# Altium footprint library RectangularConnectors.PcbLib: 154 footprints (part 8 of 10)
Each footprint in its own frame and in the unit in brackets; x right, y up, seen from the top. Pads: shape width x height; smd on the part's side, far side on the other; paste and mask are expansions set on the pad; w line width, h text height; cw(c..) or ccw(c..) is an arc to the next point about the centre after c.
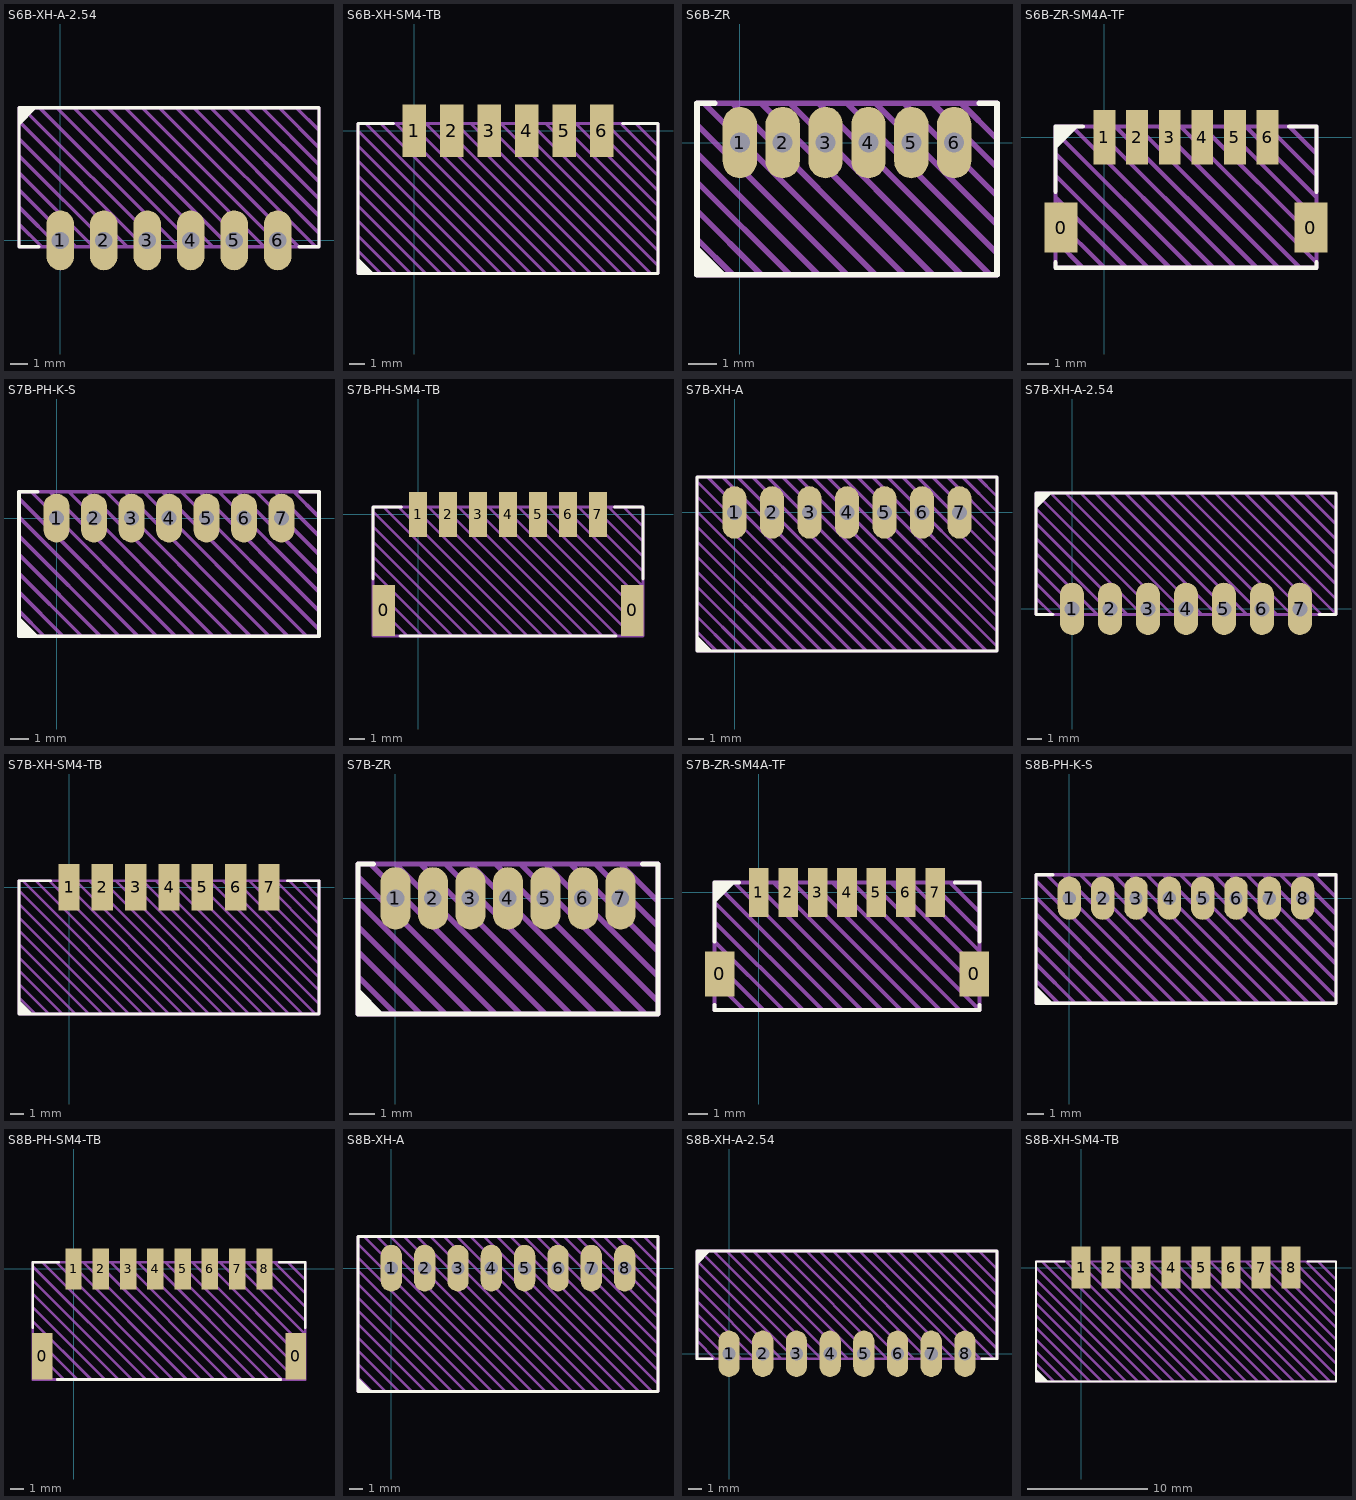
[diagram p7: the footprints below, top view; thin cyan lines are the x and y axes]

## S6B-XH-A-2.54 [mm] "XH2.54 PTH Right Angle"
pads (6):
  oval 1.6x3.5 hole 1: 1(0,0) 2(2.54,0) 3(5.08,0) 4(7.62,0) 5(10.16,0) 6(12.7,0)
Top Overlay:
  region: -2.413,6.707 -1.373,7.747 -2.413,7.747
  lines w0.2: -1.27,-0.381 -2.413,-0.381 -2.413,7.747 15.113,7.747 15.113,-0.381 13.97,-0.381
Top Draw:
  lines w0.2: -2.413,0.946 -1.086,-0.381 ; -2.413,1.946 -0.086,-0.381 ; -2.413,2.946 0.914,-0.381 ; -2.413,3.946 1.914,-0.381 ; -2.413,4.946 2.914,-0.381 ; -2.413,5.946 3.914,-0.381 ; -2.413,6.946 4.914,-0.381 ; -2.214,7.747 5.914,-0.381 ; -1.214,7.747 6.914,-0.381 ; -0.214,7.747 7.914,-0.381 ; 0.786,7.747 8.914,-0.381 ; 1.786,7.747 9.914,-0.381 ; 2.786,7.747 10.914,-0.381 ; 3.786,7.747 11.914,-0.381 ; 4.786,7.747 12.914,-0.381 ; 5.786,7.747 13.914,-0.381 ; 6.786,7.747 14.914,-0.381 ; 7.786,7.747 15.113,0.42 ; 8.786,7.747 15.113,1.42 ; 9.786,7.747 15.113,2.42 ; 10.786,7.747 15.113,3.42 ; 11.786,7.747 15.113,4.42 ; 12.786,7.747 15.113,5.42 ; 13.786,7.747 15.113,6.42 ; -2.413,-0.381 -2.413,7.747 15.113,7.747 15.113,-0.381 -2.413,-0.381
Top Info:
  text "'.Comment'" at 2.101,-3.25 h1
3D body "JST - XH - Thru (R) - 6Pin - 2.54mm.stp": height 5.84, standoff -3.38, extent -2.337,-0.325 15.037,7.712

## S6B-XH-SM4-TB [mm] "XH2.5 SMT Right Angle"
pads (6):
  rect 1.6x3.5 smd: 1(0,0) 2(2.5,0) 3(5,0) 4(7.5,0) 5(10,0) 6(12.5,0)
Top Overlay:
  region: -3.75,-8.46 -2.71,-9.5 -3.75,-9.5
  lines w0.2: -1.375,0.5 -3.75,0.5 -3.75,-9.5 16.25,-9.5 16.25,0.5 13.875,0.5
Top Draw:
  lines w0.2: -3.75,-8 -2.25,-9.5 ; -3.75,-7 -1.25,-9.5 ; -3.75,-6 -0.25,-9.5 ; -3.75,-5 0.75,-9.5 ; -3.75,-4 1.75,-9.5 ; -3.75,-3 2.75,-9.5 ; -3.75,-2 3.75,-9.5 ; -3.75,-1 4.75,-9.5 ; -3.75,0 5.75,-9.5 ; -3.25,0.5 6.75,-9.5 ; -2.25,0.5 7.75,-9.5 ; -1.25,0.5 8.75,-9.5 ; -0.25,0.5 9.75,-9.5 ; 0.75,0.5 10.75,-9.5 ; 1.75,0.5 11.75,-9.5 ; 2.75,0.5 12.75,-9.5 ; 3.75,0.5 13.75,-9.5 ; 4.75,0.5 14.75,-9.5 ; 5.75,0.5 15.75,-9.5 ; 6.75,0.5 16.25,-9 ; 7.75,0.5 16.25,-8 ; 8.75,0.5 16.25,-7 ; 9.75,0.5 16.25,-6 ; 10.75,0.5 16.25,-5 ; 11.75,0.5 16.25,-4 ; 12.75,0.5 16.25,-3 ; 13.75,0.5 16.25,-2 ; 14.75,0.5 16.25,-1 ; -3.75,-9.5 16.25,-9.5 16.25,0.5 -3.75,0.5 -3.75,-9.5
Top Info:
  text "'.Comment'" at 2.001,-10.958 h1
3D body "S6B-XH-SM4-TB.step": height 6, standoff 0, extent -3.75,-9.5 16.25,0.5

## S6B-ZR [mm] "ZH1.5 PTH Right Angle"
pads (6):
  oval 1.2x2.5 hole 0.7: 1(0,0) 2(1.5,0) 3(3,0) 4(4.5,0) 5(6,0) 6(7.5,0)
Top Overlay:
  region: -0.46,-4.625 -1.5,-3.585 -1.5,-4.625
  lines w0.2: -0.875,1.375 -1.5,1.375 -1.5,-4.625 9,-4.625 9,1.375 8.375,1.375
Top Draw:
  lines w0.2: -1.5,-3.375 -0.25,-4.625 ; -1.5,-2.375 0.75,-4.625 ; -1.5,-1.375 1.75,-4.625 ; -1.5,-0.375 2.75,-4.625 ; -1.5,0.625 3.75,-4.625 ; -1.25,1.375 4.75,-4.625 ; -0.25,1.375 5.75,-4.625 ; 0.75,1.375 6.75,-4.625 ; 1.75,1.375 7.75,-4.625 ; 2.75,1.375 8.75,-4.625 ; 3.75,1.375 9,-3.875 ; 4.75,1.375 9,-2.875 ; 5.75,1.375 9,-1.875 ; 6.75,1.375 9,-0.875 ; 7.75,1.375 9,0.125 ; -1.5,-4.625 9,-4.625 9,1.375 -1.5,1.375 -1.5,-4.625
Top Info:
  text "'.Comment'" at 0.564,-5.812 h0.75
3D body "S6B-ZR.step": height 3.72, standoff -2.68, extent -1.5,-4.6 9,1.4

## S6B-ZR-SM4A-TF [mm] "ZH1.5 SMT Right Angle"
pads (8):
  rect 1.5x2.3 smd: 0(-2,-4.15) 0(9.5,-4.15)
  rect 1x2.5 smd: 1(0,0) 2(1.5,0) 3(3,0) 4(4.5,0) 5(6,0) 6(7.5,0)
Top Overlay:
  region: -1.21,0.5 -2.25,-0.54 -2.25,0.5
  lines w0.2: -2.25,-5.75 -2.25,-6 9.75,-6 9.75,-5.75 ; -2.25,-2.5 -2.25,0.5 -1,0.5 ; 8.5,0.5 9.75,0.5 9.75,-2.5
Top Draw:
  lines w0.2: -2.25,-4.75 -1,-6 ; -2.25,-3.75 0,-6 ; -2.25,-2.75 1,-6 ; -2.25,-1.75 2,-6 ; -2.25,-0.75 3,-6 ; -2.25,0.25 4,-6 ; -1.5,0.5 5,-6 ; -0.5,0.5 6,-6 ; 0.5,0.5 7,-6 ; 1.5,0.5 8,-6 ; 2.5,0.5 9,-6 ; 3.5,0.5 9.75,-5.75 ; 4.5,0.5 9.75,-4.75 ; 5.5,0.5 9.75,-3.75 ; 6.5,0.5 9.75,-2.75 ; 7.5,0.5 9.75,-1.75 ; 8.5,0.5 9.75,-0.75 ; -2.25,-6 9.75,-6 9.75,0.5 -2.25,0.5 -2.25,-6
Top Info:
  text "'.Comment'" at 0.564,-7.187 h0.75
3D body "S6B-ZR-SM4A-TF.step": height 3.72, standoff 0.02, extent -2.25,-6 9.75,0.5

## S7B-PH-K-S [mm] "PH2.0 PTH Right Angle"
pads (7):
  oval 1.4x2.6 hole 0.8: 1(0,0) 2(2,0) 3(4,0) 4(6,0) 5(8,0) 6(10,0) 7(12,0)
Top Overlay:
  region: -0.96,-6.3 -2,-5.26 -2,-6.3
  lines w0.2: -1,1.4 -2,1.4 -2,-6.3 14,-6.3 14,1.4 13,1.4
Top Draw:
  lines w0.2: -2,-4.95 -0.65,-6.3 ; -2,-3.95 0.35,-6.3 ; -2,-2.95 1.35,-6.3 ; -2,-1.95 2.35,-6.3 ; -2,-0.95 3.35,-6.3 ; -2,0.05 4.35,-6.3 ; -2,1.05 5.35,-6.3 ; -1.35,1.4 6.35,-6.3 ; -0.35,1.4 7.35,-6.3 ; 0.65,1.4 8.35,-6.3 ; 1.65,1.4 9.35,-6.3 ; 2.65,1.4 10.35,-6.3 ; 3.65,1.4 11.35,-6.3 ; 4.65,1.4 12.35,-6.3 ; 5.65,1.4 13.35,-6.3 ; 6.65,1.4 14,-5.95 ; 7.65,1.4 14,-4.95 ; 8.65,1.4 14,-3.95 ; 9.65,1.4 14,-2.95 ; 10.65,1.4 14,-1.95 ; 11.65,1.4 14,-0.95 ; 12.65,1.4 14,0.05 ; -2,-6.3 -2,1.4 14,1.4 14,-6.3 -2,-6.3
Top Info:
  text "'.Comment'" at 1.751,-7.783 h1
3D body "S7B-PH-K-S.stp": height 4.62, standoff -3.38, extent -1.95,-6.25 13.95,1.35

## S7B-PH-SM4-TB [mm] "PH2.0 SMT Right Angle"
pads (9):
  rect 1.5x3.4 smd: 0(-2.3,-6.4) 0(14.3,-6.4)
  rect 1.2x3 smd: 1(0,0) 2(2,0) 3(4,0) 4(6,0) 5(8,0) 6(10,0) 7(12,0)
Top Overlay:
  lines w0.2: -3,-4.3 -3,0.5 -1.1,0.5 ; -1.2,-8.1 13.2,-8.1 ; 13.1,0.5 15,0.5 15,-4.3
Top Draw:
  lines w0.2: -3,-6.8 -1.7,-8.1 ; -3,-5.8 -0.7,-8.1 ; -3,-4.8 0.3,-8.1 ; -3,-3.8 1.3,-8.1 ; -3,-2.8 2.3,-8.1 ; -3,-1.8 3.3,-8.1 ; -3,-0.8 4.3,-8.1 ; -3,0.2 5.3,-8.1 ; -2.3,0.5 6.3,-8.1 ; -1.3,0.5 7.3,-8.1 ; -0.3,0.5 8.3,-8.1 ; 0.7,0.5 9.3,-8.1 ; 1.7,0.5 10.3,-8.1 ; 2.7,0.5 11.3,-8.1 ; 3.7,0.5 12.3,-8.1 ; 4.7,0.5 13.3,-8.1 ; 5.7,0.5 14.3,-8.1 ; 6.7,0.5 15,-7.8 ; 7.7,0.5 15,-6.8 ; 8.7,0.5 15,-5.8 ; 9.7,0.5 15,-4.8 ; 10.7,0.5 15,-3.8 ; 11.7,0.5 15,-2.8 ; 12.7,0.5 15,-1.8 ; 13.7,0.5 15,-0.8 ; -3,-8.1 15,-8.1 15,0.5 -3,0.5 -3,-8.1
Top Info:
  text "'.Comment'" at 1.751,-9.583 h1
3D body "S7B-PH-SM4-TB.step": height 5.52, standoff 0.02, extent -2.95,-8.1 14.95,0.5

## S7B-XH-A [mm] "XH2.5 PTH Right Angle"
pads (7):
  oval 1.6x3.5 hole 1: 1(0,0) 2(2.5,0) 3(5,0) 4(7.5,0) 5(10,0) 6(12.5,0) 7(15,0)
Top Overlay:
  region: -1.46,-9.25 -2.5,-8.21 -2.5,-9.25
  lines w0.2: -2.5,-9.25 17.5,-9.25 17.5,2.375 -2.5,2.375 -2.5,-9.25
Top Draw:
  lines w0.2: -2.5,-7.938 -1.188,-9.25 ; -2.5,-6.938 -0.188,-9.25 ; -2.5,-5.938 0.812,-9.25 ; -2.5,-4.938 1.812,-9.25 ; -2.5,-3.938 2.812,-9.25 ; -2.5,-2.938 3.812,-9.25 ; -2.5,-1.938 4.812,-9.25 ; -2.5,-0.938 5.812,-9.25 ; -2.5,0.062 6.812,-9.25 ; -2.5,1.062 7.812,-9.25 ; -2.5,2.062 8.812,-9.25 ; -1.813,2.375 9.812,-9.25 ; -0.813,2.375 10.812,-9.25 ; 0.188,2.375 11.812,-9.25 ; 1.188,2.375 12.812,-9.25 ; 2.188,2.375 13.812,-9.25 ; 3.188,2.375 14.813,-9.25 ; 4.188,2.375 15.813,-9.25 ; 5.188,2.375 16.813,-9.25 ; 6.188,2.375 17.5,-8.937 ; 7.188,2.375 17.5,-7.937 ; 8.188,2.375 17.5,-6.937 ; 9.188,2.375 17.5,-5.937 ; 10.188,2.375 17.5,-4.937 ; 11.188,2.375 17.5,-3.937 ; 12.188,2.375 17.5,-2.937 ; 13.188,2.375 17.5,-1.937 ; 14.188,2.375 17.5,-0.937 ; 15.188,2.375 17.5,0.063 ; 16.188,2.375 17.5,1.063 ; -2.5,-9.25 17.5,-9.25 17.5,2.375 -2.5,2.375 -2.5,-9.25
Top Info:
  text "'.Comment'" at 3.251,-10.708 h1
3D body "S7B-XH-A.step": height 5.77, standoff -3.48, extent -2.45,-9.2 17.45,2.3

## S7B-XH-A-2.54 [mm] "XH2.54 PTH Right Angle"
pads (7):
  oval 1.6x3.5 hole 1: 1(0,0) 2(2.54,0) 3(5.08,0) 4(7.62,0) 5(10.16,0) 6(12.7,0) 7(15.24,0)
Top Overlay:
  region: -2.413,6.707 -1.373,7.747 -2.413,7.747
  lines w0.2: -1.27,-0.381 -2.413,-0.381 -2.413,7.747 17.653,7.747 17.653,-0.381 16.51,-0.381
Top Draw:
  lines w0.2: -2.413,0.716 -1.316,-0.381 ; -2.413,1.716 -0.316,-0.381 ; -2.413,2.716 0.684,-0.381 ; -2.413,3.716 1.684,-0.381 ; -2.413,4.716 2.684,-0.381 ; -2.413,5.716 3.684,-0.381 ; -2.413,6.716 4.684,-0.381 ; -2.413,7.716 5.684,-0.381 ; -1.444,7.747 6.684,-0.381 ; -0.444,7.747 7.684,-0.381 ; 0.556,7.747 8.684,-0.381 ; 1.556,7.747 9.684,-0.381 ; 2.556,7.747 10.684,-0.381 ; 3.556,7.747 11.684,-0.381 ; 4.556,7.747 12.684,-0.381 ; 5.556,7.747 13.684,-0.381 ; 6.556,7.747 14.684,-0.381 ; 7.556,7.747 15.684,-0.381 ; 8.556,7.747 16.684,-0.381 ; 9.556,7.747 17.653,-0.35 ; 10.556,7.747 17.653,0.65 ; 11.556,7.747 17.653,1.65 ; 12.556,7.747 17.653,2.65 ; 13.556,7.747 17.653,3.65 ; 14.556,7.747 17.653,4.65 ; 15.556,7.747 17.653,5.65 ; 16.556,7.747 17.653,6.65 ; -2.413,-0.381 17.653,-0.381 17.653,7.747 -2.413,7.747 -2.413,-0.381
Top Info:
  text "'.Comment'" at 3.371,-3.25 h1
3D body "JST - XH - Thru (R) - 7Pin - 2.54mm.stp": height 5.84, standoff -3.38, extent -2.337,-0.325 17.577,7.712

## S7B-XH-SM4-TB [mm] "XH2.5 SMT Right Angle"
pads (7):
  rect 1.6x3.5 smd: 1(0,0) 2(2.5,0) 3(5,0) 4(7.5,0) 5(10,0) 6(12.5,0) 7(15,0)
Top Overlay:
  region: -3.75,-8.46 -2.71,-9.5 -3.75,-9.5
  lines w0.2: -1.375,0.5 -3.75,0.5 -3.75,-9.5 18.75,-9.5 18.75,0.5 16.375,0.5
Top Draw:
  lines w0.2: -3.75,-8.25 -2.5,-9.5 ; -3.75,-7.25 -1.5,-9.5 ; -3.75,-6.25 -0.5,-9.5 ; -3.75,-5.25 0.5,-9.5 ; -3.75,-4.25 1.5,-9.5 ; -3.75,-3.25 2.5,-9.5 ; -3.75,-2.25 3.5,-9.5 ; -3.75,-1.25 4.5,-9.5 ; -3.75,-0.25 5.5,-9.5 ; -3.5,0.5 6.5,-9.5 ; -2.5,0.5 7.5,-9.5 ; -1.5,0.5 8.5,-9.5 ; -0.5,0.5 9.5,-9.5 ; 0.5,0.5 10.5,-9.5 ; 1.5,0.5 11.5,-9.5 ; 2.5,0.5 12.5,-9.5 ; 3.5,0.5 13.5,-9.5 ; 4.5,0.5 14.5,-9.5 ; 5.5,0.5 15.5,-9.5 ; 6.5,0.5 16.5,-9.5 ; 7.5,0.5 17.5,-9.5 ; 8.5,0.5 18.5,-9.5 ; 9.5,0.5 18.75,-8.75 ; 10.5,0.5 18.75,-7.75 ; 11.5,0.5 18.75,-6.75 ; 12.5,0.5 18.75,-5.75 ; 13.5,0.5 18.75,-4.75 ; 14.5,0.5 18.75,-3.75 ; 15.5,0.5 18.75,-2.75 ; 16.5,0.5 18.75,-1.75 ; 17.5,0.5 18.75,-0.75 ; -3.75,-9.5 18.75,-9.5 18.75,0.5 -3.75,0.5 -3.75,-9.5
Top Info:
  text "'.Comment'" at 3.251,-10.958 h1
3D body "S7B-XH-SM4-TB.step": height 6, standoff 0, extent -3.75,-9.5 18.75,0.5

## S7B-ZR [mm] "ZH1.5 PTH Right Angle"
pads (7):
  oval 1.2x2.5 hole 0.7: 1(0,0) 2(1.5,0) 3(3,0) 4(4.5,0) 5(6,0) 6(7.5,0) 7(9,0)
Top Overlay:
  region: -0.46,-4.625 -1.5,-3.585 -1.5,-4.625
  lines w0.2: -0.875,1.375 -1.5,1.375 -1.5,-4.625 10.5,-4.625 10.5,1.375 9.875,1.375
Top Draw:
  lines w0.2: -1.5,-3.125 0,-4.625 ; -1.5,-2.125 1,-4.625 ; -1.5,-1.125 2,-4.625 ; -1.5,-0.125 3,-4.625 ; -1.5,0.875 4,-4.625 ; -1,1.375 5,-4.625 ; 0,1.375 6,-4.625 ; 1,1.375 7,-4.625 ; 2,1.375 8,-4.625 ; 3,1.375 9,-4.625 ; 4,1.375 10,-4.625 ; 5,1.375 10.5,-4.125 ; 6,1.375 10.5,-3.125 ; 7,1.375 10.5,-2.125 ; 8,1.375 10.5,-1.125 ; 9,1.375 10.5,-0.125 ; -1.5,-4.625 10.5,-4.625 10.5,1.375 -1.5,1.375 -1.5,-4.625
Top Info:
  text "'.Comment'" at 1.314,-5.812 h0.75
3D body "S7B-ZR.step": height 3.72, standoff -2.68, extent -1.5,-4.6 10.5,1.4

## S7B-ZR-SM4A-TF [mm] "ZH1.5 SMT Right Angle"
pads (9):
  rect 1.5x2.3 smd: 0(-2,-4.15) 0(11,-4.15)
  rect 1x2.5 smd: 1(0,0) 2(1.5,0) 3(3,0) 4(4.5,0) 5(6,0) 6(7.5,0) 7(9,0)
Top Overlay:
  region: -1.21,0.5 -2.25,-0.54 -2.25,0.5
  lines w0.2: -2.25,-5.75 -2.25,-6 11.25,-6 11.25,-5.75 ; -2.25,-2.5 -2.25,0.5 -1,0.5 ; 10,0.5 11.25,0.5 11.25,-2.5
Top Draw:
  lines w0.2: -2.25,-4.5 -0.75,-6 ; -2.25,-3.5 0.25,-6 ; -2.25,-2.5 1.25,-6 ; -2.25,-1.5 2.25,-6 ; -2.25,-0.5 3.25,-6 ; -1.25,0.5 5.25,-6 ; -0.25,0.5 6.25,-6 ; 0.75,0.5 7.25,-6 ; 1.75,0.5 8.25,-6 ; 2.75,0.5 9.25,-6 ; 3.75,0.5 10.25,-6 ; 4.25,-6 -2.25,0.5 ; 4.75,0.5 11.25,-6 ; 5.75,0.5 11.25,-5 ; 6.75,0.5 11.25,-4 ; 7.75,0.5 11.25,-3 ; 8.75,0.5 11.25,-2 ; 9.75,0.5 11.25,-1 ; -2.25,0.5 11.25,0.5 11.25,-6 ; -2.25,0.5 -2.25,-6 11.25,-6
Top Info:
  text "'.Comment'" at 1.314,-7.187 h0.75
3D body "S7B-ZR-SM4A-TF.step": height 3.72, standoff 0.02, extent -2.25,-6 11.25,0.5

## S8B-PH-K-S [mm] "PH2.0 PTH Right Angle"
pads (8):
  oval 1.4x2.6 hole 0.8: 1(0,0) 2(2,0) 3(4,0) 4(6,0) 5(8,0) 6(10,0) 7(12,0) 8(14,0)
Top Overlay:
  region: -0.96,-6.3 -2,-5.26 -2,-6.3
  lines w0.2: -1,1.4 -2,1.4 -2,-6.3 16,-6.3 16,1.4 ; 15,1.4 16,1.4 ; 16,1.4 16,1.4
Top Draw:
  lines w0.2: -2,-4.95 -0.65,-6.3 ; -2,-3.95 0.35,-6.3 ; -2,-2.95 1.35,-6.3 ; -2,-1.95 2.35,-6.3 ; -2,-0.95 3.35,-6.3 ; -2,0.05 4.35,-6.3 ; -2,1.05 5.35,-6.3 ; -1.35,1.4 6.35,-6.3 ; -0.35,1.4 7.35,-6.3 ; 0.65,1.4 8.35,-6.3 ; 1.65,1.4 9.35,-6.3 ; 2.65,1.4 10.35,-6.3 ; 3.65,1.4 11.35,-6.3 ; 4.65,1.4 12.35,-6.3 ; 5.65,1.4 13.35,-6.3 ; 6.65,1.4 14.35,-6.3 ; 7.65,1.4 15.35,-6.3 ; 8.65,1.4 16,-5.95 ; 9.65,1.4 16,-4.95 ; 10.65,1.4 16,-3.95 ; 11.65,1.4 16,-2.95 ; 12.65,1.4 16,-1.95 ; 13.65,1.4 16,-0.95 ; 14.65,1.4 16,0.05 ; -2,-6.3 -2,1.4 16,1.4 16,-6.3 -2,-6.3
Top Info:
  text "'.Comment'" at 2.751,-7.783 h1
3D body "S8B-PH-K-S.stp": height 4.62, standoff -3.38, extent -1.95,-6.25 15.95,1.35

## S8B-PH-SM4-TB [mm] "PH2.0 SMT Right Angle"
pads (10):
  rect 1.5x3.4 smd: 0(-2.3,-6.4) 0(16.3,-6.4)
  rect 1.2x3 smd: 1(0,0) 2(2,0) 3(4,0) 4(6,0) 5(8,0) 6(10,0) 7(12,0) 8(14,0)
Top Overlay:
  lines w0.2: -3,-4.3 -3,0.5 -1.1,0.5 ; -1.2,-8.1 15.2,-8.1 ; 15.1,0.5 17,0.5 17,-4.3
Top Draw:
  lines w0.2: -3,-6.8 -1.7,-8.1 ; -3,-5.8 -0.7,-8.1 ; -3,-4.8 0.3,-8.1 ; -3,-3.8 1.3,-8.1 ; -3,-2.8 2.3,-8.1 ; -3,-1.8 3.3,-8.1 ; -3,-0.8 4.3,-8.1 ; -3,0.2 5.3,-8.1 ; -2.3,0.5 6.3,-8.1 ; -1.3,0.5 7.3,-8.1 ; -0.3,0.5 8.3,-8.1 ; 0.7,0.5 9.3,-8.1 ; 1.7,0.5 10.3,-8.1 ; 2.7,0.5 11.3,-8.1 ; 3.7,0.5 12.3,-8.1 ; 4.7,0.5 13.3,-8.1 ; 5.7,0.5 14.3,-8.1 ; 6.7,0.5 15.3,-8.1 ; 7.7,0.5 16.3,-8.1 ; 8.7,0.5 17,-7.8 ; 9.7,0.5 17,-6.8 ; 10.7,0.5 17,-5.8 ; 11.7,0.5 17,-4.8 ; 12.7,0.5 17,-3.8 ; 13.7,0.5 17,-2.8 ; 14.7,0.5 17,-1.8 ; 15.7,0.5 17,-0.8 ; -3,-8.1 17,-8.1 17,0.5 -3,0.5 -3,-8.1
Top Info:
  text "'.Comment'" at 2.751,-9.583 h1
3D body "S8B-PH-SM4-TB.step": height 5.52, standoff 0.02, extent -2.95,-8.1 16.95,0.5

## S8B-XH-A [mm] "XH2.5 PTH Right Angle"
pads (8):
  oval 1.6x3.5 hole 1: 1(0,0) 2(2.5,0) 3(5,0) 4(7.5,0) 5(10,0) 6(12.5,0) 7(15,0) 8(17.5,0)
Top Overlay:
  region: -1.46,-9.25 -2.5,-8.21 -2.5,-9.25
  lines w0.2: -2.5,-9.25 20,-9.25 20,2.375 -2.5,2.375 -2.5,-9.25
Top Draw:
  lines w0.2: -2.5,-8.188 -1.438,-9.25 ; -2.5,-7.188 -0.438,-9.25 ; -2.5,-6.188 0.562,-9.25 ; -2.5,-5.188 1.562,-9.25 ; -2.5,-4.188 2.562,-9.25 ; -2.5,-3.188 3.562,-9.25 ; -2.5,-2.188 4.562,-9.25 ; -2.5,-1.188 5.562,-9.25 ; -2.5,-0.188 6.562,-9.25 ; -2.5,0.812 7.562,-9.25 ; -2.5,1.812 8.562,-9.25 ; -2.063,2.375 9.562,-9.25 ; -1.063,2.375 10.562,-9.25 ; -0.062,2.375 11.562,-9.25 ; 0.937,2.375 12.562,-9.25 ; 1.938,2.375 13.562,-9.25 ; 2.937,2.375 14.563,-9.25 ; 3.938,2.375 15.562,-9.25 ; 4.938,2.375 16.563,-9.25 ; 5.938,2.375 17.562,-9.25 ; 6.938,2.375 18.563,-9.25 ; 7.938,2.375 19.563,-9.25 ; 8.938,2.375 20,-8.687 ; 9.938,2.375 20,-7.687 ; 10.938,2.375 20,-6.687 ; 11.938,2.375 20,-5.687 ; 12.938,2.375 20,-4.687 ; 13.938,2.375 20,-3.687 ; 14.938,2.375 20,-2.687 ; 15.938,2.375 20,-1.687 ; 16.938,2.375 20,-0.687 ; 17.938,2.375 20,0.313 ; 18.938,2.375 20,1.313 ; -2.5,-9.25 20,-9.25 20,2.375 -2.5,2.375 -2.5,-9.25
Top Info:
  text "'.Comment'" at 4.501,-10.708 h1
3D body "S8B-XH-A.step": height 5.77, standoff -3.48, extent -2.45,-9.2 19.95,2.3

## S8B-XH-A-2.54 [mm] "XH2.54 PTH Right Angle"
pads (8):
  oval 1.6x3.5 hole 1: 1(0,0) 2(2.54,0) 3(5.08,0) 4(7.62,0) 5(10.16,0) 6(12.7,0) 7(15.24,0) 8(17.78,0)
Top Overlay:
  region: -2.413,6.707 -1.373,7.747 -2.413,7.747
  lines w0.2: -1.27,-0.381 -2.413,-0.381 -2.413,7.747 20.193,7.747 20.193,-0.381 19.05,-0.381
Top Draw:
  lines w0.2: -2.413,0.986 -1.046,-0.381 ; -2.413,1.986 -0.046,-0.381 ; -2.413,2.986 0.954,-0.381 ; -2.413,3.986 1.954,-0.381 ; -2.413,4.986 2.954,-0.381 ; -2.413,5.986 3.954,-0.381 ; -2.413,6.986 4.954,-0.381 ; -2.174,7.747 5.954,-0.381 ; -1.174,7.747 6.954,-0.381 ; -0.174,7.747 7.954,-0.381 ; 0.826,7.747 8.954,-0.381 ; 1.826,7.747 9.954,-0.381 ; 2.826,7.747 10.954,-0.381 ; 3.826,7.747 11.954,-0.381 ; 4.826,7.747 12.954,-0.381 ; 5.826,7.747 13.954,-0.381 ; 6.826,7.747 14.954,-0.381 ; 7.826,7.747 15.954,-0.381 ; 8.826,7.747 16.954,-0.381 ; 9.826,7.747 17.954,-0.381 ; 10.826,7.747 18.954,-0.381 ; 11.826,7.747 19.954,-0.381 ; 12.826,7.747 20.193,0.38 ; 13.826,7.747 20.193,1.38 ; 14.826,7.747 20.193,2.38 ; 15.826,7.747 20.193,3.38 ; 16.826,7.747 20.193,4.38 ; 17.826,7.747 20.193,5.38 ; 18.826,7.747 20.193,6.38 ; -2.413,-0.381 -2.413,7.747 20.193,7.747 20.193,-0.381 -2.413,-0.381
Top Info:
  text "'.Comment'" at 4.641,-3.25 h1
3D body "JST - XH - Thru (R) - 8Pin - 2.54mm.stp": height 5.84, standoff -3.38, extent -2.337,-0.325 20.117,7.712

## S8B-XH-SM4-TB [mm] "XH2.5 SMT Right Angle"
pads (8):
  rect 1.6x3.5 smd: 1(0,0) 2(2.5,0) 3(5,0) 4(7.5,0) 5(10,0) 6(12.5,0) 7(15,0) 8(17.5,0)
Top Overlay:
  region: -3.75,-8.46 -2.71,-9.5 -3.75,-9.5
  lines w0.2: -1.375,0.5 -3.75,0.5 -3.75,-9.5 21.25,-9.5 21.25,0.5 18.875,0.5
Top Draw:
  lines w0.2: -3.75,-8 -2.25,-9.5 ; -3.75,-7 -1.25,-9.5 ; -3.75,-6 -0.25,-9.5 ; -3.75,-5 0.75,-9.5 ; -3.75,-4 1.75,-9.5 ; -3.75,-3 2.75,-9.5 ; -3.75,-2 3.75,-9.5 ; -3.75,-1 4.75,-9.5 ; -3.75,0 5.75,-9.5 ; -3.25,0.5 6.75,-9.5 ; -2.25,0.5 7.75,-9.5 ; -1.25,0.5 8.75,-9.5 ; -0.25,0.5 9.75,-9.5 ; 0.75,0.5 10.75,-9.5 ; 1.75,0.5 11.75,-9.5 ; 2.75,0.5 12.75,-9.5 ; 3.75,0.5 13.75,-9.5 ; 4.75,0.5 14.75,-9.5 ; 5.75,0.5 15.75,-9.5 ; 6.75,0.5 16.75,-9.5 ; 7.75,0.5 17.75,-9.5 ; 8.75,0.5 18.75,-9.5 ; 9.75,0.5 19.75,-9.5 ; 10.75,0.5 20.75,-9.5 ; 11.75,0.5 21.25,-9 ; 12.75,0.5 21.25,-8 ; 13.75,0.5 21.25,-7 ; 14.75,0.5 21.25,-6 ; 15.75,0.5 21.25,-5 ; 16.75,0.5 21.25,-4 ; 17.75,0.5 21.25,-3 ; 18.75,0.5 21.25,-2 ; 19.75,0.5 21.25,-1 ; -3.75,-9.5 -3.75,0.5 21.25,0.5 21.25,-9.5 -3.75,-9.5
Top Info:
  text "'.Comment'" at 4.501,-10.958 h1
3D body "S8B-XH-SM4-TB.step": height 6, standoff 0, extent -3.75,-9.5 21.25,0.5